# Altium footprint library PcbLib1.PcbLib: 11 footprints
Each footprint in its own frame and in the unit in brackets; x right, y up, seen from the top. Pads: shape width x height; smd on the part's side, far side on the other; paste and mask are expansions set on the pad; w line width, h text height; cw(c..) or ccw(c..) is an arc to the next point about the centre after c.
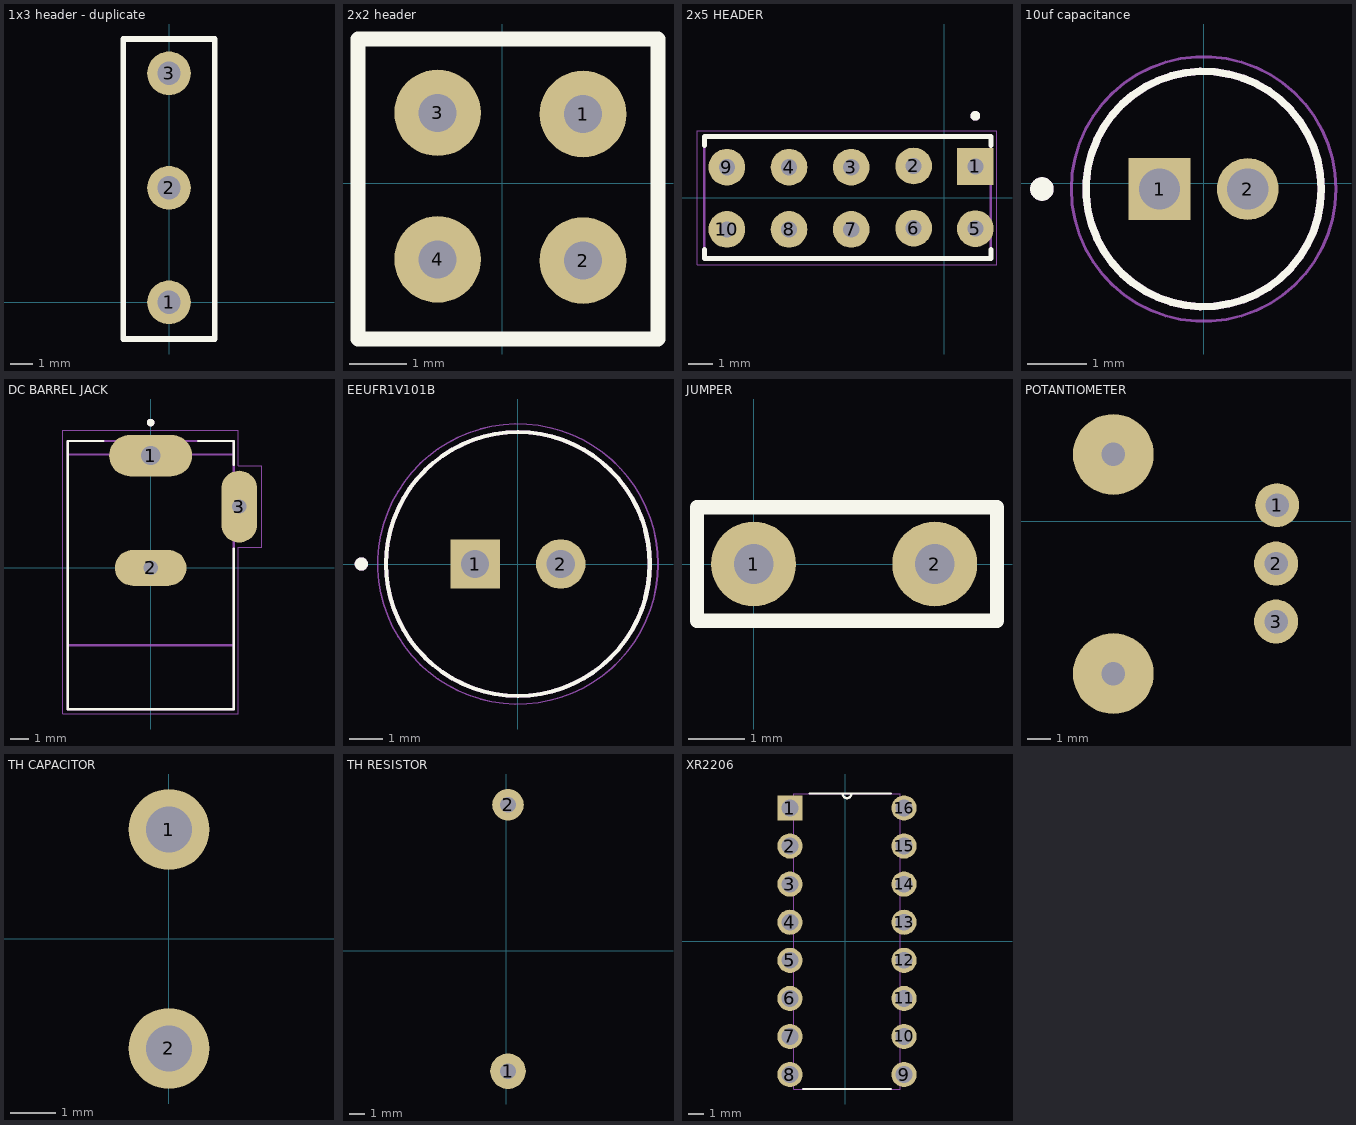
[diagram p0: the footprints below, top view; thin cyan lines are the x and y axes]

## 1x3 header - duplicate [mil]
pads (3):
  round 75 hole 40 mask+1.97: 1(0,0) 2(0,196.85) 3(0,393.7)
Top Overlay:
  lines w10: -78.74,-62.99 -78.74,452.76 78.74,452.76 78.74,-62.99 -78.74,-62.99

## 2x2 header [mm]
pads (4):
  round 1.5 hole 0.66: 1(1.4,1.2) 2(1.4,-1.34) 3(-1.12,1.22) 4(-1.12,-1.32)
Top Overlay:
  lines w0.254: -2.5,-2.7 -2.5,1.5 -2.5,2.5 2.7,2.5 2.7,-2.7 -2.5,-2.7
3D body "User Library-GPHC201 connector.STEP": height 8.54, standoff -0.96, extent -2.6,-3.785 2.86,3.585

## 2x5 HEADER [mm]
pads (10):
  rect 1.5x1.5 hole 0.66: 1(1.27,1.27)
  round 1.5 hole 0.66: 2(-1.25,1.29) 3(-3.8,1.24) 4(-6.34,1.24) 5(1.27,-1.27) 6(-1.25,-1.25) 7(-3.8,-1.3) 8(-6.34,-1.3) 9(-8.88,1.24) 10(-8.88,-1.3)
Top Overlay:
  circle w0.2: c1.27,3.339 r0.1
  lines w0.2: -9.8,-2.125 -9.8,-2.489 1.905,-2.489 1.905,-2.125 ; -9.8,2.125 -9.8,2.489 1.905,2.489 1.905,2.125
Mechanical 13:
  circle w0.2: c1.27,3.339 r0.1
  lines w0.1: -9.8,-2.489 1.905,-2.489 1.905,2.489 -9.8,2.489 -9.8,-2.489
Mechanical 15:
  lines w0.05: -10.1,-2.739 -10.1,2.739 2.155,2.739 2.155,-2.739 -10.1,-2.739
3D body "User Library-Pin header 2x5 pinos reto pitch 2_54.STEP": height 9.5, standoff -3.2, extent -10.15,-2.5 2.55,2.58

## 10uf capacitance [mm]
pads (2):
  rect 1.05x1.05 hole 0.7: 1(-0.75,-0.1)
  round 1.05 hole 0.7: 2(0.75,-0.1)
Top Overlay:
  circle w0.2: c-2.75,-0.1 r0.1
  circle w0.127: c0,-0.1 r2
Mechanical 1:
  text "1" at 10.604,5.972 h2.61
  text "3" at 10.604,3.457 h2.61
  text "2" at 10.604,0.943 h2.61
Mechanical 13:
  circle w0.2: c-2.75,-0.1 r0.1
  circle w0.127: c0,-0.1 r2
Mechanical 15:
  circle w0.05: c0,-0.1 r2.25
3D body "step_temp.STEP": height 7, standoff -17, extent -2,-2.099 2,1.899

## DC BARREL JACK [mm]
pads (3):
  oval 4.4x2.2 hole 1.02 square: 1(0,5.955)
  oval 3.8x1.9 hole 0.76 square: 2(0,0)
  oval 1.9x3.8 hole 0.76 square: 3(4.69,3.25)
Top Overlay:
  circle w0.2: c0,7.7 r0.1
  lines w0.127: -2.52,6.725 -4.4,6.725 -4.4,-7.49 4.4,-7.49 4.4,1.03 ; 2.52,6.725 4.4,6.725 4.4,5.47
Mechanical 13:
  circle w0.2: c0,7.7 r0.1
  lines w0.127: -4.4,-4.09 4.4,-4.09 ; -4.4,-4.09 -4.4,-7.49 4.4,-7.49 4.4,-4.09 ; -4.4,-4.09 -4.4,6.01 ; -4.4,6.01 4.4,6.01 ; -4.4,6.01 -4.4,6.725 4.4,6.725 4.4,6.01 ; 4.4,-4.09 4.4,6.01
Mechanical 15:
  lines w0.05: -4.65,-7.74 4.65,-7.74 4.65,1.1 5.89,1.1 5.89,5.4 4.65,5.4 4.65,7.3 -4.65,7.3 -4.65,-7.74
3D body "EJ508A--3DModel-STEP-231308.STEP": height 11.34, standoff -3.81, extent -4.4,-7.766 5.15,6.654

## EEUFR1V101B [mm] "100uF CAPATAICANCE"
pads (2):
  rect 1.5x1.5 hole 0.85: 1(-1.3,0)
  round 1.5 hole 0.85: 2(1.3,0)
Top Overlay:
  circle w0.2: c-4.75,0 r0.1
  circle w0.127: c0,0 r4
Mechanical 13:
  circle w0.2: c-4.75,0 r0.1
  circle w0.127: c0,0 r4
Mechanical 15:
  circle w0.05: c0,0 r4.25
3D body "step_temp.STEP": height 11.5, standoff -17, extent -4,-4 4,4

## JUMPER [mm]
pads (2):
  round 1.5 hole 0.7 mask+0.05: 1(0,0) 2(3.2,0)
Top Overlay:
  lines w0.254: -1,-1 4.3,-1 4.3,1 -1,1 -1,-1

## POTANTIOMETER [mm]
pads (5):
  round 1.905 hole 1.016 mask+0.05: 1(16.1,0.7) 2(16.053,-1.829) 3(16.053,-4.343)
  round 3.5 hole 1.016 mask+0.05: ""(9,-6.6) ""(9,2.9)
3D body "User Library-RV09ACF-40_RK09K1130A5R.STEP": height 19.78, standoff -4.02, extent 3.651,-6.679 16.201,3.072

## TH CAPACITOR [mil]
pads (2):
  round 70 hole 40 mask+1.97: 1(0,94.49) 2(0,-94.49)
3D body "User Library-capacitor-radial.STEP": height 250, standoff -50, extent -45,-110 45,110

## TH RESISTOR [mil]
pads (2):
  round 90 hole 40 mask+1.97: 1(5,-305)
  round 80 hole 40 mask+1.97: 2(5,370)
3D body "User Library-Resistor 5-band.STEP": height 142, standoff -125, extent -59.06,-311.38 72.94,390.12

## XR2206 [mil]
pads (16):
  rect 66x66 hole 44: 1(-145,350)
  round 66 hole 44: 2(-145,250) 3(-145,150) 4(-145,50) 5(-145,-50) 6(-145,-150) 7(-145,-250) 8(-145,-350) 9(155,-350) 10(155,-250) 11(155,-150) 12(155,-50) 13(155,50) 14(155,150) 15(155,250) 16(155,350)
Top Overlay:
  lines w6: -110,-388 120,-388 ; -93,388 -7,388 ; 120,388 17,388 ; -7,388 ccw(c5,388) 17,388 ; -7,388 17,388
Mechanical 13:
  lines w0: -7,388 ccw(c5,388) 17,388 ; -7,388 -135,388 -135,-388 145,-388 145,388 17,388 ; -7,388 17,388 ; -167,-372 -135,-372 -135,-328 -167,-328 -167,-372 ; -167,-272 -135,-272 -135,-228 -167,-228 -167,-272 ; -167,-172 -135,-172 -135,-128 -167,-128 -167,-172 ; -167,-72 -135,-72 -135,-28 -167,-28 -167,-72 ; -167,28 -135,28 -135,72 -167,72 -167,28 ; -167,128 -135,128 -135,172 -167,172 -167,128 ; -167,228 -135,228 -135,272 -167,272 -167,228 ; -167,328 -135,328 -135,372 -167,372 -167,328 ; 145,-372 177,-372 177,-328 145,-328 145,-372 ; 145,-272 177,-272 177,-228 145,-228 145,-272 ; 145,-172 177,-172 177,-128 145,-128 145,-172 ; 145,-72 177,-72 177,-28 145,-28 145,-72 ; 145,28 177,28 177,72 145,72 145,28 ; 145,128 177,128 177,172 145,172 145,128 ; 145,228 177,228 177,272 145,272 145,228 ; 145,328 177,328 177,372 145,372 145,328
3D body "XR2206CPF--3DModel-STEP-1.STEP": height 210, standoff -160, extent -150.5,-396.25 160.5,396.25